# Altium footprint library LED.PcbLib: 41 footprints (part 3 of 3)
Each footprint in its own frame and in the unit in brackets; x right, y up, seen from the top. Pads: shape width x height; smd on the part's side, far side on the other; paste and mask are expansions set on the pad; w line width, h text height; cw(c..) or ccw(c..) is an arc to the next point about the centre after c.
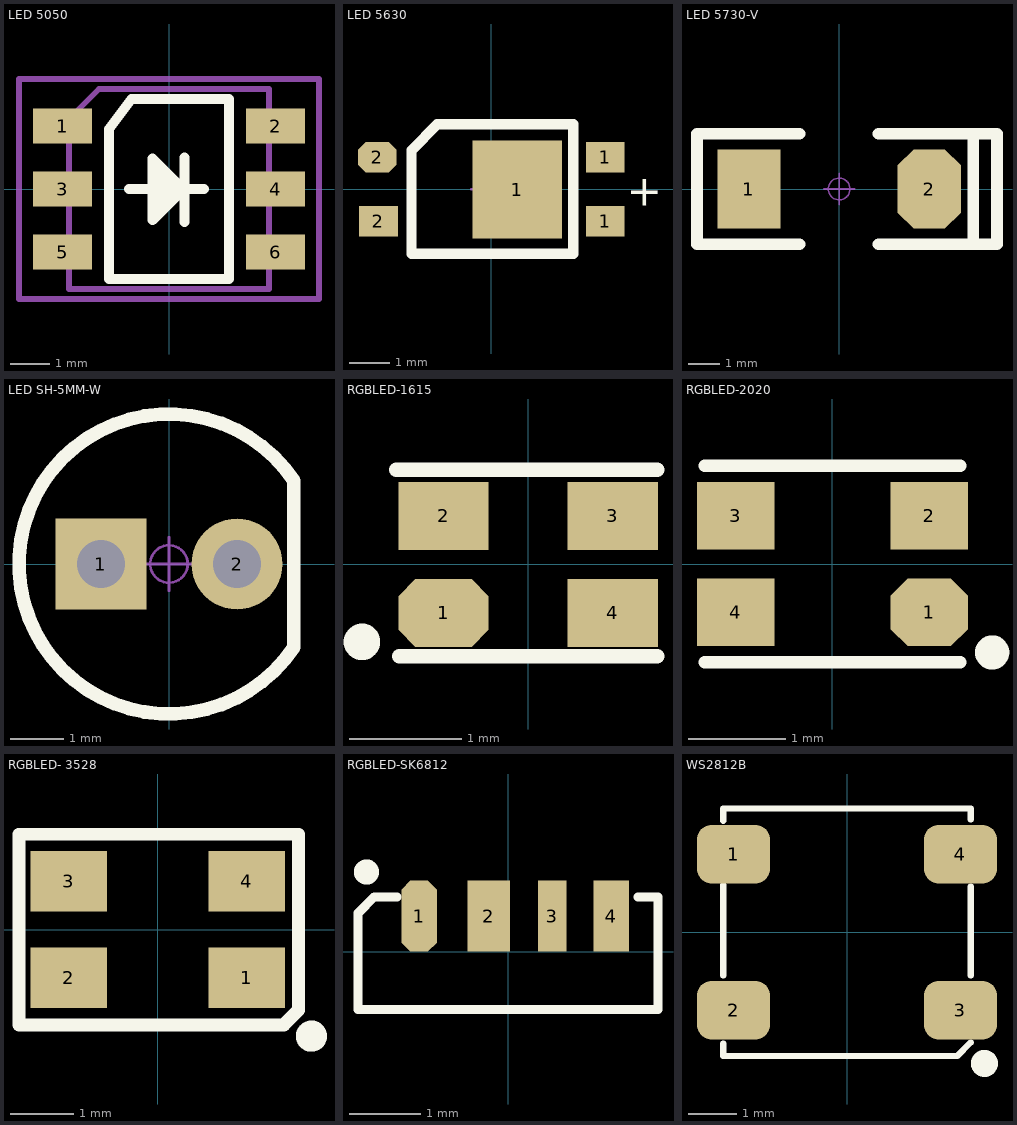
[diagram p2: the footprints below, top view; thin cyan lines are the x and y axes]

## LED 5050 [mm] "白色5050LED"
pads (6):
  rect 1.5x0.9 smd: 1(-2.705,1.6) 2(2.705,1.6) 3(-2.705,0) 4(2.705,0) 5(-2.705,-1.6) 6(2.705,-1.6)
Top Overlay:
  lines w0.254: -1.016,0 0.889,0 ; -0.254,0.559 -0.229,-0.432 0.254,0 0,0.254 0,0 0,-0.254 ; 0.356,-0.02 -0.417,-0.792 -0.417,0.775 0.396,-0.038 ; 0.396,-0.841 0.396,0.805 ; -1.524,-2.286 -1.524,1.524 -0.953,2.286 1.524,2.286 1.524,-2.286 -1.524,-2.286
Mechanical 13:
  lines w0.15: -2.54,-2.54 -2.54,1.778 -1.778,2.54 2.54,2.54 2.54,-2.54 -2.54,-2.54
Mechanical 15:
  circle w0.05: c0,0 r0.35
  lines w0.05: -0.5,0 0.5,0 ; 0,-0.5 0,0.5
  lines w0.15: -3.81,-2.794 -3.81,2.794 3.81,2.794 3.81,-2.794 -3.81,-2.794
3D body "LED 5050 基体.STEP": height 1.65, standoff 0.05, extent -2.7,-2.5 2.7,2.5
3D body "LED 5050 透明胶.STEP": height 1.65, standoff 0.67, extent -1.995,-1.995 1.995,1.995

## LED 5630 [mm] "白色5630LED"
pads (5):
  rect 2.2x2.4 smd: 1(0.635,-0.006)
  rect 0.95x0.75 smd: 1(2.794,-0.781) 1(2.794,0.781) 2(-2.769,-0.781)
  oct 0.95x0.75 smd: 2(-2.794,0.781)
Top Overlay:
  lines w0.254: -1.956,-1.581 -1.956,0.959 -1.321,1.594 2.007,1.594 2.007,-1.581 -1.956,-1.581
  text "+" at 3.327,-0.4 h0.76
Mechanical 15:
  circle w0.05: c0,0 r0.35
  lines w0.05: -0.5,0 0.5,0 ; 0,-0.5 0,0.5
3D body "LED 5630 透明胶.STEP": height 0.95, standoff 0.6, extent -2.395,-1.395 2.395,1.395
3D body "LED 5630 基体.STEP": height 0.95, standoff 0.05, extent -2.9,-1.5 2.9,1.5

## LED 5730-V [mm] "紫色5730LED"
pads (2):
  rect 2.032x2.54 smd: 1(-2.9,0)
  oct 2.032x2.54 smd: 2(2.9,0)
Top Overlay:
  lines w0.381: -1.27,-1.778 -4.572,-1.778 -4.572,1.778 -1.27,1.778 ; 1.27,-1.778 4.318,-1.778 ; 1.27,1.778 4.318,1.778 4.318,-1.778 ; 4.191,1.778 5.08,1.778 5.08,-1.778 4.318,-1.778
Mechanical 15:
  circle w0.05: c0,0 r0.35
  lines w0.05: -0.5,0 0.5,0 ; 0,-0.5 0,0.5
3D body "LED_UV5730.STEP": height 0.85, standoff 0, extent -2.85,-1.5 2.85,1.5

## LED SH-5MM-W [mm] "白色5mm草帽，直插LED"
height 10.16
pads (2):
  rect 1.7x1.7 hole 0.9: 1(-1.27,0)
  round 1.7 hole 0.9: 2(1.27,0)
Top Overlay:
  lines w0.254: 2.33,-1.553 cw(c0,0) 2.33,1.553 2.33,-1.553
Mechanical 15:
  circle w0.05: c0,0 r0.35
  lines w0.05: -0.5,0 0.5,0 ; 0,-0.5 0,0.5
3D body "LED-4.8mm玻璃罩.STEP": height 4.85, standoff 0.05, extent -2.75,-2.75 2.41,2.75
3D body "LED-4.8mm.STEP": height 3.42, standoff -3.45, extent -1.584,-0.745 1.535,0.755

## RGBLED-1615 [mm] "RGBLED  1615"
pads (4):
  oct 0.8x0.6 smd: 1(-0.75,-0.43)
  rect 0.8x0.6 smd: 2(-0.75,0.43) 3(0.75,0.43) 4(0.75,-0.43)
Top Overlay:
  circle w0.254: c-1.473,-0.686 r0.035
  lines w0.127: -1.168,0.838 1.143,0.838 ; -1.143,-0.813 1.143,-0.813
3D body "User Library-HSMF-C114.STEP": height 0.34, standoff -0.01, extent -0.8,-0.738 0.8,0.762

## RGBLED-2020 [mm] "RGBLED  2020"
pads (4):
  oct 0.8x0.7 smd: 1(1,-0.5)
  rect 0.8x0.7 smd: 2(1,0.5) 3(-1,0.5) 4(-1,-0.5)
Top Overlay:
  circle w0.254: c1.651,-0.914 r0.05
  lines w0.127: -1.321,-1.016 1.321,-1.016 ; -1.321,1.016 1.321,1.016
3D body "User Library-HSMF-C114.STEP": height 0.34, standoff -0.01, extent -0.8,-0.738 0.8,0.762

## RGBLED- 3528 [mm]
pads (4):
  rect 1.2x0.95 smd: 1(1.4,-0.76) 2(-1.4,-0.76) 3(-1.4,0.76) 4(1.4,0.76)
Top Overlay:
  circle w0.25: c2.415,-1.676 r0.12
  lines w0.203: -2.184,-1.499 -2.184,1.499 2.21,1.499 2.21,-1.27 1.981,-1.499 -2.184,-1.499
3D body "User Library-PLCC4RGBCT-CA LED SMD RGB.STEP": height 2, standoff 0.1, extent -1.75,-1.397 1.75,1.403

## RGBLED-SK6812 [mm] "RGBLED  2020"
pads (4):
  oct 0.5x1 smd: 1(-1.25,0.5)
  rect 0.6x1 smd: 2(-0.27,0.5)
  rect 0.4x1 smd: 3(0.62,0.5)
  rect 0.5x1 smd: 4(1.45,0.5)
Top Overlay:
  circle w0.254: c-1.99,1.12 r0.05
  lines w0.127: -1.56,0.77 -1.88,0.77 -2.108,0.542 -2.108,-0.813 2.108,-0.813 2.108,0.77 1.83,0.77

## WS2812B [mm] "WS2812B RGB LED"
height 0.6
pads (4):
  rrect50% 1.5x1.2 smd: 1(-2.327,1.6) 2(-2.327,-1.6) 3(2.327,-1.6) 4(2.327,1.6)
Top Overlay:
  circle w0.3: c2.819,-2.692 r0.127
  lines w0.127: -2.54,-2.286 -2.54,-2.54 2.261,-2.54 2.54,-2.261 ; -2.54,-0.889 -2.54,0.965 ; -2.54,2.286 -2.54,2.54 2.54,2.54 2.54,2.311 ; 2.54,-0.889 2.54,0.94
3D body "User Library-WS2812B.STEP": height 1.5, standoff -0.2, extent -2.7,-2.5 2.7,2.5